# Altium integrated library National Semiconductor Amplifier.IntLib: 1665 symbols (part 4 of 44)
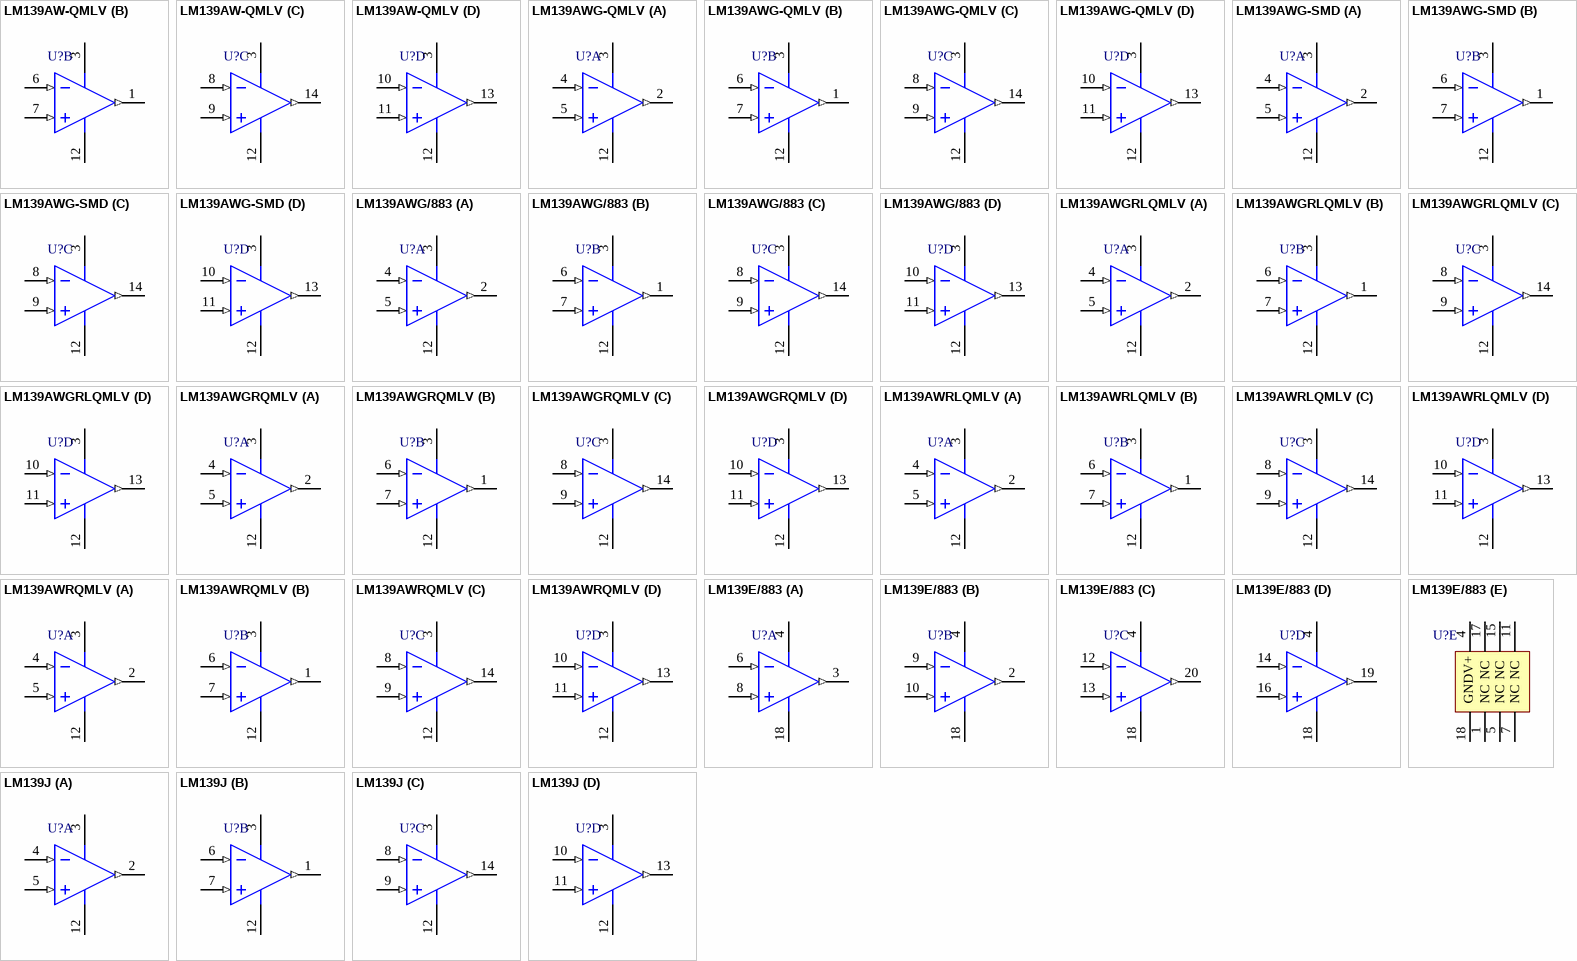
[diagram p87: symbols LM139AW-QMLV to LM139J]

## LM139AWRQMLV
designator U?
Low Power Low Offset Voltage Quad Comparator, 14-pin CerPACK; PartNumber: LM139AWRQMLV; Manufacturer: National Semiconductor; PackageTopMarking: NSZSSXXYYA*LM139AWR*QV Q*5962R*9673801VDA; PowerWise: N; CompType: Amplifiers; High-Reliability: Y; DatasheetVersion: Mar-2004; PackageVersion: revP, Jun-2004; PackageReference: W14B; PackageDescription: Cerpack, .390 x .250 x .070in Body, 14 Lead, .050in Pitch; RoHS: N; PinCount: 14; Code_JEDEC: MO-092-AB; ComponentLink1Description: Manufacturer URL; ComponentLink1URL: http://www.national.com/; ComponentLink2Description: LM139A Datasheet; ComponentLink2URL: http://www.national.com/ds/LM/LM139AQML.pdf; ComponentLink3Description: LM139A Web Page; ComponentLink3URL: http://www.national.com/pf/LM/LM139A.html; ComponentLink4Description: W14B Package Page; ComponentLink4URL: http://www.national.com/packaging/folders/w14b.html
footprint W14B (DFP; 14 Leads; Body 9.8 x 7.1 mm (LxW max); Pitch 1.27 mm)
pins on every part: 3 V+ (power), 12 GND (power)
part A pins: 2 OUT1 (out), 4 IN1- (in), 5 IN1+ (in)
part B pins: 1 OUT2 (out), 6 IN2- (in), 7 IN2+ (in)
part C pins: 8 IN3- (in), 9 IN3+ (in), 14 OUT3 (out)
part D pins: 10 IN4- (in), 11 IN4+ (in), 13 OUT4 (out)

## LM139E/883
designator U?
Low Power Low Offset Voltage Quad Comparator, 20-pin LCC; PartNumber: LM139E/883; Manufacturer: National Semiconductor; PackageTopMarking: NSZSSXXYYA*LM139E*/883 Q; PowerWise: N; CompType: Amplifiers; High-Reliability: Y; DatasheetVersion: Apr-2008; PackageVersion: revF, May-2004; PackageReference: E20A; PackageDescription: Leadless Chip Carrier, Type C, 20 Terminal; RoHS: N; PinCount: 20; Code_JEDEC: MS-004-CB; ComponentLink1Description: Manufacturer URL; ComponentLink1URL: http://www.national.com/; ComponentLink2Description: LM139 Datasheet; ComponentLink2URL: http://www.national.com/ds/LM/LM139AQML.pdf; ComponentLink3Description: LM139 Web Page; ComponentLink3URL: http://www.national.com/pf/LM/LM139.html; ComponentLink4Description: E20A Package Page; ComponentLink4URL: http://www.national.com/packaging/folders/e20a.html
footprint E20A_N (Leadless Chip Carrier, 20-Leads, Body 8.9x8.9mm, Pitch 1.27mm, IPC Medium Density)
footprint E20A_L (Leadless Chip Carrier, 20-Leads, Body 8.9x8.9mm, Pitch 1.27mm, IPC High Density)
footprint E20A_M (Leadless Chip Carrier, 20-Leads, Body 8.9x8.9mm, Pitch 1.27mm, IPC Low Density)
pins on every part: 4 V+ (power), 18 GND (power)
part A pins: 3 OUT1 (out), 6 IN1- (in), 8 IN1+ (in)
part B pins: 2 OUT2 (out), 9 IN2- (in), 10 IN2+ (in)
part C pins: 12 IN3- (in), 13 IN3+ (in), 20 OUT3 (out)
part D pins: 14 IN4- (in), 16 IN4+ (in), 19 OUT4 (out)
part E pins: 1 NC, 5 NC, 7 NC, 11 NC, 15 NC, 17 NC

## LM139J
designator U?
Low Power Low Offset Voltage Quad Comparator, 14-pin CerDIP; PartNumber: LM139J; Manufacturer: National Semiconductor; PackageTopMarking: NSUZXYYTT*LM139J; PowerWise: N; CompType: Amplifiers; High-Reliability: Y; DatasheetVersion: Mar-2004; PackageVersion: revJ, Jul-2002; PackageReference: J14A; PackageDescription: Cerdip, .400 x .310in Body, 14 Lead, .300in Centers, .100in Pitch; RoHS: N; PinCount: 14; ComponentLink1Description: Manufacturer URL; ComponentLink1URL: http://www.national.com/; ComponentLink2Description: LM139 Datasheet; ComponentLink2URL: http://www.national.com/ds/LM/LM139.pdf; ComponentLink3Description: LM139 Web Page; ComponentLink3URL: http://www.national.com/pf/LM/LM139.html; ComponentLink4Description: J14A Package Page; ComponentLink4URL: http://www.national.com/packaging/folders/j14a.html
footprint J14A (DIP, 14-Leads, Row Spacing 7.62mm, Pitch 2.54mm, Body 19.56x6.73mm)
pins on every part: 3 V+ (power), 12 GND (power)
part A pins: 2 OUT1 (out), 4 IN1- (in), 5 IN1+ (in)
part B pins: 1 OUT2 (out), 6 IN2- (in), 7 IN2+ (in)
part C pins: 8 IN3- (in), 9 IN3+ (in), 14 OUT3 (out)
part D pins: 10 IN4- (in), 11 IN4+ (in), 13 OUT4 (out)

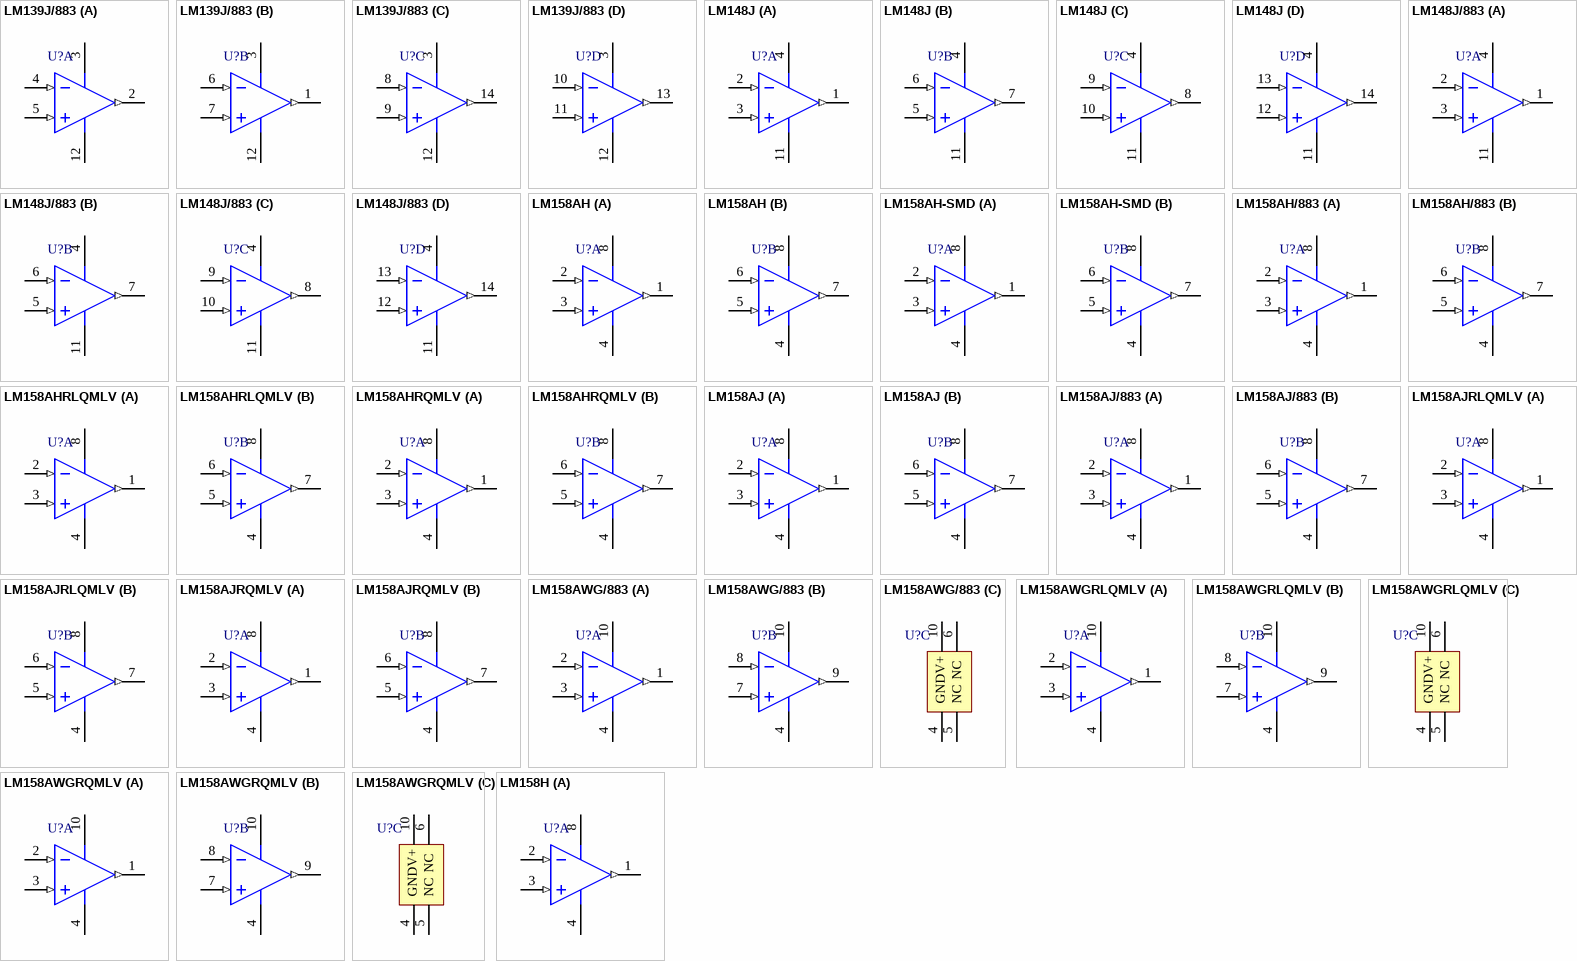
[diagram p8: symbols LM139J/883 to LM158H]

## LM139J/883
designator U?
Low Power Low Offset Voltage Quad Comparator, 14-pin CerDIP; PartNumber: LM139J/883; Manufacturer: National Semiconductor; PackageTopMarking: NSZSSXXYYA*LM139J/883 Q; PowerWise: N; CompType: Amplifiers; High-Reliability: Y; DatasheetVersion: Mar-2004; PackageVersion: revJ, Jul-2002; PackageReference: J14A; PackageDescription: Cerdip, .400 x .310in Body, 14 Lead, .300in Centers, .100in Pitch; RoHS: N; PinCount: 14; ComponentLink1Description: Manufacturer URL; ComponentLink1URL: http://www.national.com/; ComponentLink2Description: LM139 Datasheet; ComponentLink2URL: http://www.national.com/ds/LM/LM139AQML.pdf; ComponentLink3Description: LM139 Web Page; ComponentLink3URL: http://www.national.com/pf/LM/LM139.html; ComponentLink4Description: J14A Package Page; ComponentLink4URL: http://www.national.com/packaging/folders/j14a.html
footprint J14A (DIP, 14-Leads, Row Spacing 7.62mm, Pitch 2.54mm, Body 19.56x6.73mm)
pins on every part: 3 V+ (power), 12 GND (power)
part A pins: 2 OUT1 (out), 4 IN1- (in), 5 IN1+ (in)
part B pins: 1 OUT2 (out), 6 IN2- (in), 7 IN2+ (in)
part C pins: 8 IN3- (in), 9 IN3+ (in), 14 OUT3 (out)
part D pins: 10 IN4- (in), 11 IN4+ (in), 13 OUT4 (out)

## LM148J
designator U?
Series Quad 741 Op Amp, 14-pin CerDIP; PartNumber: LM148J; Manufacturer: National Semiconductor; PackageTopMarking: NSUZXYYTT*LM148J; PowerWise: N; CompType: Amplifiers; High-Reliability: Y; DatasheetVersion: Nov-2003; PackageVersion: revJ, Jul-2002; PackageReference: J14A; PackageDescription: Cerdip, .400 x .310in Body, 14 Lead, .300in Centers, .100in Pitch; RoHS: N; PinCount: 14; ComponentLink1Description: Manufacturer URL; ComponentLink1URL: http://www.national.com/; ComponentLink2Description: LM148 Datasheet; ComponentLink2URL: http://www.national.com/ds/LM/LM148.pdf; ComponentLink3Description: LM148 Web Page; ComponentLink3URL: http://www.national.com/pf/LM/LM148.html; ComponentLink4Description: J14A Package Page; ComponentLink4URL: http://www.national.com/packaging/folders/j14a.html
footprint J14A (DIP, 14-Leads, Row Spacing 7.62mm, Pitch 2.54mm, Body 19.56x6.73mm)
pins on every part: 4 V+ (power), 11 V- (power)
part A pins: 1 OUT1 (out), 2 IN1- (in), 3 IN1+ (in)
part B pins: 5 IN2+ (in), 6 IN2- (in), 7 OUT2 (out)
part C pins: 8 OUT3 (out), 9 IN3- (in), 10 IN3+ (in)
part D pins: 12 IN4+ (in), 13 IN4- (in), 14 OUT4 (out)

## LM148J/883
designator U?
Series Quad 741 Op Amp, 14-pin CerDIP; PartNumber: LM148J/883; Manufacturer: National Semiconductor; PackageTopMarking: NSZSSXXYYA*LM148J/883 Q; PowerWise: N; CompType: Amplifiers; High-Reliability: Y; DatasheetVersion: Nov-2003; PackageVersion: revJ, Jul-2002; PackageReference: J14A; PackageDescription: Cerdip, .400 x .310in Body, 14 Lead, .300in Centers, .100in Pitch; RoHS: N; PinCount: 14; ComponentLink1Description: Manufacturer URL; ComponentLink1URL: http://www.national.com/; ComponentLink2Description: LM148 Datasheet; ComponentLink2URL: http://www.national.com/ds/LM/LM148QML.pdf; ComponentLink3Description: LM148 Web Page; ComponentLink3URL: http://www.national.com/pf/LM/LM148.html; ComponentLink4Description: J14A Package Page; ComponentLink4URL: http://www.national.com/packaging/folders/j14a.html
footprint J14A (DIP, 14-Leads, Row Spacing 7.62mm, Pitch 2.54mm, Body 19.56x6.73mm)
pins on every part: 4 V+ (power), 11 V- (power)
part A pins: 1 OUT1 (out), 2 IN1- (in), 3 IN1+ (in)
part B pins: 5 IN2+ (in), 6 IN2- (in), 7 OUT2 (out)
part C pins: 8 OUT3 (out), 9 IN3- (in), 10 IN3+ (in)
part D pins: 12 IN4+ (in), 13 IN4- (in), 14 OUT4 (out)

## LM158AH
designator U?
Low Power Dual Operational Amplifier, 8-pin TO-99; PartNumber: LM158AH; Manufacturer: National Semiconductor; PackageTopMarking: NSZXYTTE# LM158AH; PowerWise: N; CompType: Amplifiers; High-Reliability: Y; DatasheetVersion: Oct-2005; PackageVersion: revF, Jun-1995; PackageReference: H08C; PackageDescription: Metal Can, TO-99, 8 Lead, .200 Dia., P.C.; RoHS: N; PinCount: 8; Code_JEDEC: TO-99; ComponentLink1Description: Manufacturer URL; ComponentLink1URL: http://www.national.com/; ComponentLink2Description: LM158 Datasheet; ComponentLink2URL: http://www.national.com/ds/LM/LM158.pdf; ComponentLink3Description: LM158 Web Page; ComponentLink3URL: http://www.national.com/pf/LM/LM158.html; ComponentLink4Description: H08C Package Page; ComponentLink4URL: http://www.national.com/packaging/folders/h08c.html
footprint H08C (Can; 8 Leads; Pin Circle Dia. 5.08 mm; Lead Dia. 0.48 mm (max))
pins on every part: 4 GND (power), 8 V+ (power)
part A pins: 1 OUTA (out), 2 INA- (in), 3 INA+ (in)
part B pins: 5 INB+ (in), 6 INB- (in), 7 OUTB (out)

## LM158AH-SMD
designator U?
Low Power Dual Operational Amplifier, 8-pin TO-99; PartNumber: LM158AH-SMD; Manufacturer: National Semiconductor; PackageTopMarking: NSZSSXXYYA Q*5962-8771002GA; PowerWise: N; CompType: Amplifiers; High-Reliability: Y; DatasheetVersion: Oct-2005; PackageVersion: revF, Jun-1995; PackageReference: H08C; PackageDescription: Metal Can, TO-99, 8 Lead, .200 Dia., P.C.; RoHS: N; PinCount: 8; Code_JEDEC: TO-99; ComponentLink1Description: Manufacturer URL; ComponentLink1URL: http://www.national.com/; ComponentLink2Description: LM158 Datasheet; ComponentLink2URL: http://www.national.com/ds/LM/LM158QML.pdf; ComponentLink3Description: LM158 Web Page; ComponentLink3URL: http://www.national.com/pf/LM/LM158.html; ComponentLink4Description: H08C Package Page; ComponentLink4URL: http://www.national.com/packaging/folders/h08c.html
footprint H08C (Can; 8 Leads; Pin Circle Dia. 5.08 mm; Lead Dia. 0.48 mm (max))
pins on every part: 4 GND (power), 8 V+ (power)
part A pins: 1 OUTA (out), 2 INA- (in), 3 INA+ (in)
part B pins: 5 INB+ (in), 6 INB- (in), 7 OUTB (out)

## LM158AH/883
designator U?
Low Power Dual Operational Amplifier, 8-pin TO-99; PartNumber: LM158; Manufacturer: National Semiconductor; PackageTopMarking: NSZSSXXYYA LM158AH/883 Q; PowerWise: N; CompType: Amplifiers; High-Reliability: Y; DatasheetVersion: Oct-2005; PackageVersion: revF, Jun-1995; PackageReference: H08C; PackageDescription: Metal Can, TO-99, 8 Lead, .200 Dia., P.C.; RoHS: N; PinCount: 8; Code_JEDEC: TO-99; ComponentLink1Description: Manufacturer URL; ComponentLink1URL: http://www.national.com/; ComponentLink2Description: LM158 Datasheet; ComponentLink2URL: http://www.national.com/ds/LM/LM158QML.pdf; ComponentLink3Description: LM158 Web Page; ComponentLink3URL: http://www.national.com/pf/LM/LM158.html; ComponentLink4Description: H08C Package Page; ComponentLink4URL: http://www.national.com/packaging/folders/h08c.html
footprint H08C (Can; 8 Leads; Pin Circle Dia. 5.08 mm; Lead Dia. 0.48 mm (max))
pins on every part: 4 GND (power), 8 V+ (power)
part A pins: 1 OUTA (out), 2 INA- (in), 3 INA+ (in)
part B pins: 5 INB+ (in), 6 INB- (in), 7 OUTB (out)

## LM158AHRLQMLV
designator U?
Low Power Dual Operational Amplifier, 8-pin TO-99; PartNumber: LM158AHRLQMLV; Manufacturer: National Semiconductor; PackageTopMarking: NSZSSXXYYA LM158AHRLQV Q*5962R8771003VGA; PowerWise: N; CompType: Amplifiers; High-Reliability: Y; DatasheetVersion: Aug-2008; PackageVersion: revF, Jun-1995; PackageReference: H08C; PackageDescription: Metal Can, TO-99, 8 Lead, .200 Dia., P.C.; RoHS: N; PinCount: 8; Code_JEDEC: TO-99; ComponentLink1Description: Manufacturer URL; ComponentLink1URL: http://www.national.com/; ComponentLink2Description: LM158 Datasheet; ComponentLink2URL: http://www.national.com/ds/LM/LM158QML.pdf; ComponentLink3Description: LM158 Web Page; ComponentLink3URL: http://www.national.com/pf/LM/LM158.html; ComponentLink4Description: H08C Package Page; ComponentLink4URL: http://www.national.com/packaging/folders/h08c.html
footprint H08C (Can; 8 Leads; Pin Circle Dia. 5.08 mm; Lead Dia. 0.48 mm (max))
pins on every part: 4 GND (power), 8 V+ (power)
part A pins: 1 OUTA (out), 2 INA- (in), 3 INA+ (in)
part B pins: 5 INB+ (in), 6 INB- (in), 7 OUTB (out)

## LM158AHRQMLV
designator U?
Low Power Dual Operational Amplifier, 8-pin TO-99; PartNumber: LM158AHRQMLV; Manufacturer: National Semiconductor; PackageTopMarking: NS ZSSXXYYA LM158AHRQV Q*5962R8771002VGA; PowerWise: N; CompType: Amplifiers; High-Reliability: Y; DatasheetVersion: Oct-2005; PackageVersion: revF, Jun-1995; PackageReference: H08C; PackageDescription: Metal Can, TO-99, 8 Lead, .200 Dia., P.C.; RoHS: N; PinCount: 8; Code_JEDEC: TO-99; ComponentLink1Description: Manufacturer URL; ComponentLink1URL: http://www.national.com/; ComponentLink2Description: LM158 Datasheet; ComponentLink2URL: http://www.national.com/ds/LM/LM158QML.pdf; ComponentLink3Description: LM158 Web Page; ComponentLink3URL: http://www.national.com/pf/LM/LM158.html; ComponentLink4Description: H08C Package Page; ComponentLink4URL: http://www.national.com/packaging/folders/h08c.html
footprint H08C (Can; 8 Leads; Pin Circle Dia. 5.08 mm; Lead Dia. 0.48 mm (max))
pins on every part: 4 GND (power), 8 V+ (power)
part A pins: 1 OUTA (out), 2 INA- (in), 3 INA+ (in)
part B pins: 5 INB+ (in), 6 INB- (in), 7 OUTB (out)

## LM158AJ
designator U?
Low Power Dual Operational Amplifier, 8-pin CerDIP; PartNumber: LM158AJ; Manufacturer: National Semiconductor; PackageTopMarking: NSUZXYTT*LM158AJ; PowerWise: N; CompType: Amplifiers; High-Reliability: Y; DatasheetVersion: Oct-2005; PackageVersion: revM, Jul-2002; PackageReference: J08A; PackageDescription: Cerdip, .400 x .310in Body, 8 Lead, .300in Centers, .100in Pitch; RoHS: N; PinCount: 8; ComponentLink1Description: Manufacturer URL; ComponentLink1URL: http://www.national.com/; ComponentLink2Description: LM158 Datasheet; ComponentLink2URL: http://www.national.com/ds/LM/LM158.pdf; ComponentLink3Description: LM158 Web Page; ComponentLink3URL: http://www.national.com/pf/LM/LM158.html; ComponentLink4Description: J08A Package Page; ComponentLink4URL: http://www.national.com/packaging/folders/j08a.html
footprint J08A (DIP, 8-Leads, Row Spacing 7.62mm, Pitch 2.54mm, Body 9.78x6.73mm)
pins on every part: 4 GND (power), 8 V+ (power)
part A pins: 1 OUTA (out), 2 INA- (in), 3 INA+ (in)
part B pins: 5 INB+ (in), 6 INB- (in), 7 OUTB (out)

## LM158AJ/883
designator U?
Low Power Dual Operational Amplifier, 8-pin CerDIP; PartNumber: LM158AJ/883; Manufacturer: National Semiconductor; PackageTopMarking: NSZSSXXYYA*LM158AJ/883*Q 5962-*8771002PA; PowerWise: N; CompType: Amplifiers; High-Reliability: Y; DatasheetVersion: Oct-2005; PackageVersion: revM, Jul-2002; PackageReference: J08A; PackageDescription: Cerdip, .400 x .310in Body, 8 Lead, .300in Centers, .100in Pitch; RoHS: N; PinCount: 8; ComponentLink1Description: Manufacturer URL; ComponentLink1URL: http://www.national.com/; ComponentLink2Description: LM158 Datasheet; ComponentLink2URL: http://www.national.com/ds/LM/LM158QML.pdf; ComponentLink3Description: LM158 Web Page; ComponentLink3URL: http://www.national.com/pf/LM/LM158.html; ComponentLink4Description: J08A Package Page; ComponentLink4URL: http://www.national.com/packaging/folders/j08a.html
footprint J08A (DIP, 8-Leads, Row Spacing 7.62mm, Pitch 2.54mm, Body 9.78x6.73mm)
pins on every part: 4 GND (power), 8 V+ (power)
part A pins: 1 OUTA (out), 2 INA- (in), 3 INA+ (in)
part B pins: 5 INB+ (in), 6 INB- (in), 7 OUTB (out)

## LM158AJRLQMLV
designator U?
Low Power Dual Operational Amplifier, 8-pin CerDIP; PartNumber: LM158AJRLQMLV; Manufacturer: National Semiconductor; PackageTopMarking: NSZSSXXYYA*LM158AJRL*QV Q 5962R*8771003VPA; PowerWise: N; CompType: Amplifiers; High-Reliability: Y; DatasheetVersion: Aug-2008; PackageVersion: revM, Jul-2002; PackageReference: J08A; PackageDescription: Cerdip, .400 x .310in Body, 8 Lead, .300in Centers, .100in Pitch; RoHS: N; PinCount: 8; ComponentLink1Description: Manufacturer URL; ComponentLink1URL: http://www.national.com/; ComponentLink2Description: LM158 Datasheet; ComponentLink2URL: http://www.national.com/ds/LM/LM158QML.pdf; ComponentLink3Description: LM158 Web Page; ComponentLink3URL: http://www.national.com/pf/LM/LM158.html; ComponentLink4Description: J08A Package Page; ComponentLink4URL: http://www.national.com/packaging/folders/j08a.html
footprint J08A (DIP, 8-Leads, Row Spacing 7.62mm, Pitch 2.54mm, Body 9.78x6.73mm)
pins on every part: 4 GND (power), 8 V+ (power)
part A pins: 1 OUTA (out), 2 INA- (in), 3 INA+ (in)
part B pins: 5 INB+ (in), 6 INB- (in), 7 OUTB (out)

## LM158AJRQMLV
designator U?
Low Power Dual Operational Amplifier, 8-pin CerDIP; PartNumber: LM158AJRQMLV; Manufacturer: National Semiconductor; PackageTopMarking: NSZSSXXYYA*LM158AJRQV Q*5962R8771002*VPA; PowerWise: N; CompType: Amplifiers; High-Reliability: Y; DatasheetVersion: Oct-2005; PackageVersion: revM, Jul-2002; PackageReference: J08A; PackageDescription: Cerdip, .400 x .310in Body, 8 Lead, .300in Centers, .100in Pitch; RoHS: N; PinCount: 8; ComponentLink1Description: Manufacturer URL; ComponentLink1URL: http://www.national.com/; ComponentLink2Description: LM158 Datasheet; ComponentLink2URL: http://www.national.com/ds/LM/LM158QML.pdf; ComponentLink3Description: LM158 Web Page; ComponentLink3URL: http://www.national.com/pf/LM/LM158.html; ComponentLink4Description: J08A Package Page; ComponentLink4URL: http://www.national.com/packaging/folders/j08a.html
footprint J08A (DIP, 8-Leads, Row Spacing 7.62mm, Pitch 2.54mm, Body 9.78x6.73mm)
pins on every part: 4 GND (power), 8 V+ (power)
part A pins: 1 OUTA (out), 2 INA- (in), 3 INA+ (in)
part B pins: 5 INB+ (in), 6 INB- (in), 7 OUTB (out)

## LM158AWG/883
designator U?
Low Power Dual Operational Amplifier, 10-pin CerPACK; PartNumber: LM158AWG/883; Manufacturer: National Semiconductor; PackageTopMarking: NS87710*02QXA*ZSSXXYYA*LM158A*WG/883 Q; PowerWise: N; CompType: Amplifiers; High-Reliability: Y; DatasheetVersion: Aug-2008; PackageVersion: revF, Oct-2008; PackageReference: WG10A; PackageDescription: Cerpack, .270 x .241 x .070in, 10 Lead, .050in Pitch, Gull Wing; RoHS: N; PinCount: 10; ComponentLink1Description: Manufacturer URL; ComponentLink1URL: http://www.national.com/; ComponentLink2Description: LM158 Datasheet; ComponentLink2URL: http://www.national.com/ds/LM/LM158QML.pdf; ComponentLink3Description: LM158 Web Page; ComponentLink3URL: http://www.national.com/pf/LM/LM158.html; ComponentLink4Description: WG10A Package Page; ComponentLink4URL: http://www.national.com/packaging/folders/wg10a.html
footprint WG10A_N (CERPACK, 10-Leads, Body 6.9x6.3mm, Pitch 1.27mm, IPC Medium Density)
footprint WG10A_L (CERPACK, 10-Leads, Body 6.9x6.3mm, Pitch 1.27mm, IPC High Density)
footprint WG10A_M (CERPACK, 10-Leads, Body 6.9x6.3mm, Pitch 1.27mm, IPC Low Density)
pins on every part: 4 GND (power), 10 V+ (power)
part A pins: 1 OUTA (out), 2 INA- (in), 3 INA+ (in)
part B pins: 7 INB+ (in), 8 INB- (in), 9 OUTB (out)
part C pins: 5 NC, 6 NC

## LM158AWGRLQMLV
designator U?
Low Power Dual Operational Amplifier, 10-pin CerPACK; PartNumber: LM158AWGRLQMLV; Manufacturer: National Semiconductor; PackageTopMarking: NSZSSXXYYA*LM158AWG*RLQV Q*5962R87710*03VXA; PowerWise: N; CompType: Amplifiers; High-Reliability: Y; DatasheetVersion: Aug-2008; PackageVersion: revF, Oct-2008; PackageReference: WG10A; PackageDescription: Cerpack, .270 x .241 x .070in, 10 Lead, .050in Pitch, Gull Wing; RoHS: N; PinCount: 10; ComponentLink1Description: Manufacturer URL; ComponentLink1URL: http://www.national.com/; ComponentLink2Description: LM158 Datasheet; ComponentLink2URL: http://www.national.com/ds/LM/LM158QML.pdf; ComponentLink3Description: LM158 Web Page; ComponentLink3URL: http://www.national.com/pf/LM/LM158.html; ComponentLink4Description: WG10A Package Page; ComponentLink4URL: http://www.national.com/packaging/folders/wg10a.html
footprint WG10A_N (CERPACK, 10-Leads, Body 6.9x6.3mm, Pitch 1.27mm, IPC Medium Density)
footprint WG10A_L (CERPACK, 10-Leads, Body 6.9x6.3mm, Pitch 1.27mm, IPC High Density)
footprint WG10A_M (CERPACK, 10-Leads, Body 6.9x6.3mm, Pitch 1.27mm, IPC Low Density)
pins on every part: 4 GND (power), 10 V+ (power)
part A pins: 1 OUTA (out), 2 INA- (in), 3 INA+ (in)
part B pins: 7 INB+ (in), 8 INB- (in), 9 OUTB (out)
part C pins: 5 NC, 6 NC

## LM158AWGRQMLV
designator U?
Low Power Dual Operational Amplifier, 10-pin CerPACK; PartNumber: LM158AWGRQMLV; Manufacturer: National Semiconductor; PackageTopMarking: NSZSSXXYYA*LM158AWG*RQV Q*5962R87710*02VXA; PowerWise: N; CompType: Amplifiers; High-Reliability: Y; DatasheetVersion: Aug-2008; PackageVersion: revF, Oct-2008; PackageReference: WG10A; PackageDescription: Cerpack, .270 x .241 x .070in, 10 Lead, .050in Pitch, Gull Wing; RoHS: N; PinCount: 10; ComponentLink1Description: Manufacturer URL; ComponentLink1URL: http://www.national.com/; ComponentLink2Description: LM158 Datasheet; ComponentLink2URL: http://www.national.com/ds/LM/LM158QML.pdf; ComponentLink3Description: LM158 Web Page; ComponentLink3URL: http://www.national.com/pf/LM/LM158.html; ComponentLink4Description: WG10A Package Page; ComponentLink4URL: http://www.national.com/packaging/folders/wg10a.html
footprint WG10A_N (CERPACK, 10-Leads, Body 6.9x6.3mm, Pitch 1.27mm, IPC Medium Density)
footprint WG10A_L (CERPACK, 10-Leads, Body 6.9x6.3mm, Pitch 1.27mm, IPC High Density)
footprint WG10A_M (CERPACK, 10-Leads, Body 6.9x6.3mm, Pitch 1.27mm, IPC Low Density)
pins on every part: 4 GND (power), 10 V+ (power)
part A pins: 1 OUTA (out), 2 INA- (in), 3 INA+ (in)
part B pins: 7 INB+ (in), 8 INB- (in), 9 OUTB (out)
part C pins: 5 NC, 6 NC

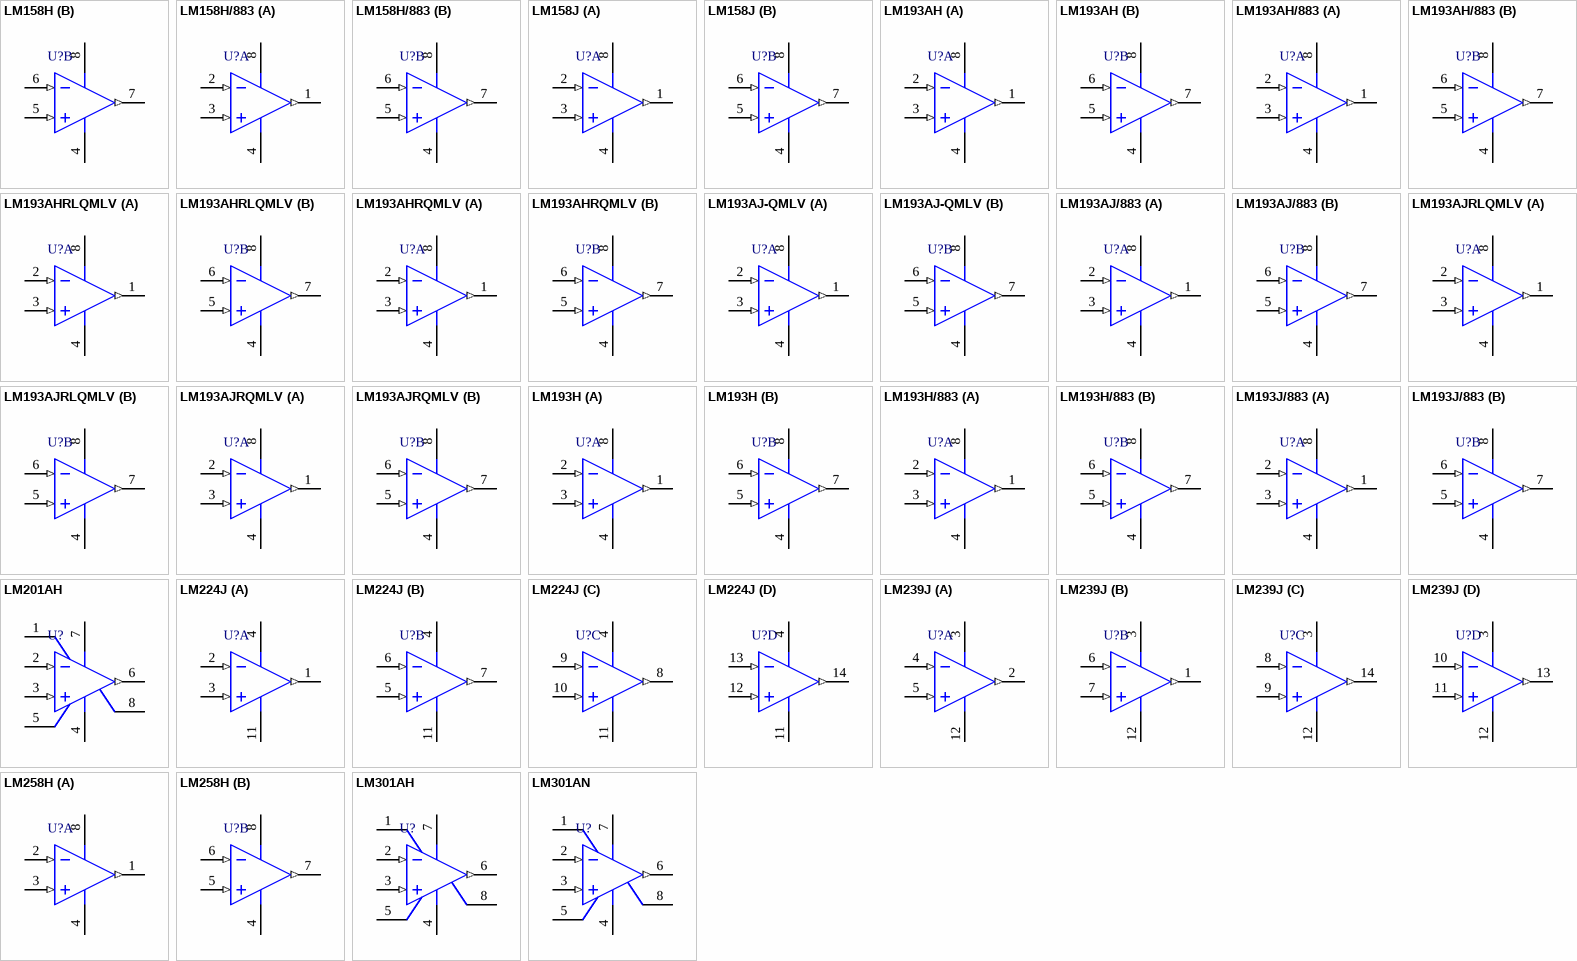
[diagram p9: symbols LM158H to LM301AN]

## LM158H
designator U?
Low Power Dual Operational Amplifier, 8-pin TO-99; PartNumber: LM158H; Manufacturer: National Semiconductor; PackageTopMarking: NSZXYTTE# LM158H; PowerWise: N; CompType: Amplifiers; High-Reliability: Y; DatasheetVersion: Oct-2005; PackageVersion: revF, Jun-1995; PackageReference: H08C; PackageDescription: Metal Can, TO-99, 8 Lead, .200 Dia., P.C.; RoHS: N; PinCount: 8; Code_JEDEC: TO-99; ComponentLink1Description: Manufacturer URL; ComponentLink1URL: http://www.national.com/; ComponentLink2Description: LM158 Datasheet; ComponentLink2URL: http://www.national.com/ds/LM/LM158.pdf; ComponentLink3Description: LM158 Web Page; ComponentLink3URL: http://www.national.com/pf/LM/LM158.html; ComponentLink4Description: H08C Package Page; ComponentLink4URL: http://www.national.com/packaging/folders/h08c.html
footprint H08C (Can; 8 Leads; Pin Circle Dia. 5.08 mm; Lead Dia. 0.48 mm (max))
pins on every part: 4 GND (power), 8 V+ (power)
part A pins: 1 OUTA (out), 2 INA- (in), 3 INA+ (in)
part B pins: 5 INB+ (in), 6 INB- (in), 7 OUTB (out)

## LM158H/883
designator U?
Low Power Dual Operational Amplifier, 8-pin TO-99; PartNumber: LM158; Manufacturer: National Semiconductor; PackageTopMarking: NSZSSXXYYA LM158H/883 Q; PowerWise: N; CompType: Amplifiers; High-Reliability: Y; DatasheetVersion: Oct-2005; PackageVersion: revF, Jun-1995; PackageReference: H08C; PackageDescription: Metal Can, TO-99, 8 Lead, .200 Dia., P.C.; RoHS: N; PinCount: 8; Code_JEDEC: TO-99; ComponentLink1Description: Manufacturer URL; ComponentLink1URL: http://www.national.com/; ComponentLink2Description: LM158 Datasheet; ComponentLink2URL: http://www.national.com/ds/LM/LM158QML.pdf; ComponentLink3Description: LM158 Web Page; ComponentLink3URL: http://www.national.com/pf/LM/LM158.html; ComponentLink4Description: H08C Package Page; ComponentLink4URL: http://www.national.com/packaging/folders/h08c.html
footprint H08C (Can; 8 Leads; Pin Circle Dia. 5.08 mm; Lead Dia. 0.48 mm (max))
pins on every part: 4 GND (power), 8 V+ (power)
part A pins: 1 OUTA (out), 2 INA- (in), 3 INA+ (in)
part B pins: 5 INB+ (in), 6 INB- (in), 7 OUTB (out)

## LM158J
designator U?
Low Power Dual Operational Amplifier, 8-pin CerDIP; PartNumber: LM158J; Manufacturer: National Semiconductor; PackageTopMarking: NSUZXYTT*LM158J; PowerWise: N; CompType: Amplifiers; High-Reliability: Y; DatasheetVersion: Oct-2005; PackageVersion: revM, Jul-2002; PackageReference: J08A; PackageDescription: Cerdip, .400 x .310in Body, 8 Lead, .300in Centers, .100in Pitch; RoHS: N; PinCount: 8; ComponentLink1Description: Manufacturer URL; ComponentLink1URL: http://www.national.com/; ComponentLink2Description: LM158 Datasheet; ComponentLink2URL: http://www.national.com/ds/LM/LM158.pdf; ComponentLink3Description: LM158 Web Page; ComponentLink3URL: http://www.national.com/pf/LM/LM158.html; ComponentLink4Description: J08A Package Page; ComponentLink4URL: http://www.national.com/packaging/folders/j08a.html
footprint J08A (DIP, 8-Leads, Row Spacing 7.62mm, Pitch 2.54mm, Body 9.78x6.73mm)
pins on every part: 4 GND (power), 8 V+ (power)
part A pins: 1 OUTA (out), 2 INA- (in), 3 INA+ (in)
part B pins: 5 INB+ (in), 6 INB- (in), 7 OUTB (out)

## LM193AH
designator U?
Low Power Low Offset Voltage Dual Comparator, 8-pin TO-99; PartNumber: LM193AH; Manufacturer: National Semiconductor; PackageTopMarking: NSZXYTTE# LM193AH; PowerWise: N; CompType: Amplifiers; High-Reliability: Y; DatasheetVersion: Aug-2002; PackageVersion: revF, Jun-1995; PackageReference: H08C; PackageDescription: Metal Can, TO-99, 8 Lead, .200 Dia., P.C.; RoHS: N; PinCount: 8; Code_JEDEC: TO-99; ComponentLink1Description: Manufacturer URL; ComponentLink1URL: http://www.national.com/; ComponentLink2Description: LM193A Datasheet; ComponentLink2URL: http://www.national.com/ds/LM/LM193.pdf; ComponentLink3Description: LM193A Web Page; ComponentLink3URL: http://www.national.com/pf/LM/LM193A.html; ComponentLink4Description: H08C Package Page; ComponentLink4URL: http://www.national.com/packaging/folders/h08c.html
footprint H08C (Can; 8 Leads; Pin Circle Dia. 5.08 mm; Lead Dia. 0.48 mm (max))
pins on every part: 4 GND (power), 8 V+ (power)
part A pins: 1 OUTA (out), 2 INA- (in), 3 INA+ (in)
part B pins: 5 INB+ (in), 6 INB- (in), 7 OUTB (out)

## LM193AH/883
designator U?
Low Power Low Offset Voltage Dual Comparator, 8-pin TO-99; PartNumber: LM193AH/883; Manufacturer: National Semiconductor; PackageTopMarking: NSZSSXXYYA LM193AH/883 Q*5962-9452602MGA; PowerWise: N; CompType: Amplifiers; High-Reliability: Y; DatasheetVersion: Aug-2002; PackageVersion: revF, Jun-1995; PackageReference: H08C; PackageDescription: Metal Can, TO-99, 8 Lead, .200 Dia., P.C.; RoHS: N; PinCount: 8; Code_JEDEC: TO-99; ComponentLink1Description: Manufacturer URL; ComponentLink1URL: http://www.national.com/; ComponentLink2Description: LM193A Datasheet; ComponentLink2URL: http://www.national.com/ds/LM/LM193QML.pdf; ComponentLink3Description: LM193A Web Page; ComponentLink3URL: http://www.national.com/pf/LM/LM193A.html; ComponentLink4Description: H08C Package Page; ComponentLink4URL: http://www.national.com/packaging/folders/h08c.html
footprint H08C (Can; 8 Leads; Pin Circle Dia. 5.08 mm; Lead Dia. 0.48 mm (max))
pins on every part: 4 GND (power), 8 V+ (power)
part A pins: 1 OUTA (out), 2 INA- (in), 3 INA+ (in)
part B pins: 5 INB+ (in), 6 INB- (in), 7 OUTB (out)

## LM193AHRLQMLV
designator U?
Low Power Low Offset Voltage Dual Comparator, 8-pin TO-99; PartNumber: LM193AHRLQMLV; Manufacturer: National Semiconductor; PackageTopMarking: NSZSSXXYYALM193AHRLQV Q*5962R9452603VGA; PowerWise: N; CompType: Amplifiers; High-Reliability: Y; DatasheetVersion: Aug-2002; PackageVersion: revF, Jun-1995; PackageReference: H08C; PackageDescription: Metal Can, TO-99, 8 Lead, .200 Dia., P.C.; RoHS: N; PinCount: 8; Code_JEDEC: TO-99; ComponentLink1Description: Manufacturer URL; ComponentLink1URL: http://www.national.com/; ComponentLink2Description: LM193A Datasheet; ComponentLink2URL: http://www.national.com/ds/LM/LM193QML.pdf; ComponentLink3Description: LM193A Web Page; ComponentLink3URL: http://www.national.com/pf/LM/LM193A.html; ComponentLink4Description: H08C Package Page; ComponentLink4URL: http://www.national.com/packaging/folders/h08c.html
footprint H08C (Can; 8 Leads; Pin Circle Dia. 5.08 mm; Lead Dia. 0.48 mm (max))
pins on every part: 4 GND (power), 8 V+ (power)
part A pins: 1 OUTA (out), 2 INA- (in), 3 INA+ (in)
part B pins: 5 INB+ (in), 6 INB- (in), 7 OUTB (out)

## LM193AHRQMLV
designator U?
Low Power Low Offset Voltage Dual Comparator, 8-pin TO-99; PartNumber: LM193AHRQMLV; Manufacturer: National Semiconductor; PackageTopMarking: NSZSSXXYYALM193AHRQV Q*5962R9452602VGA; PowerWise: N; CompType: Amplifiers; High-Reliability: Y; DatasheetVersion: Aug-2002; PackageVersion: revF, Jun-1995; PackageReference: H08C; PackageDescription: Metal Can, TO-99, 8 Lead, .200 Dia., P.C.; RoHS: N; PinCount: 8; Code_JEDEC: TO-99; ComponentLink1Description: Manufacturer URL; ComponentLink1URL: http://www.national.com/; ComponentLink2Description: LM193A Datasheet; ComponentLink2URL: http://www.national.com/ds/LM/LM193QML.pdf; ComponentLink3Description: LM193A Web Page; ComponentLink3URL: http://www.national.com/pf/LM/LM193A.html; ComponentLink4Description: H08C Package Page; ComponentLink4URL: http://www.national.com/packaging/folders/h08c.html
footprint H08C (Can; 8 Leads; Pin Circle Dia. 5.08 mm; Lead Dia. 0.48 mm (max))
pins on every part: 4 GND (power), 8 V+ (power)
part A pins: 1 OUTA (out), 2 INA- (in), 3 INA+ (in)
part B pins: 5 INB+ (in), 6 INB- (in), 7 OUTB (out)

## LM193AJ-QMLV
designator U?
Low Power Low Offset Voltage Dual Comparator, 8-pin CerDIP; PartNumber: LM193AJ-QMLV; Manufacturer: National Semiconductor; PackageTopMarking: NSZSSXXYYA*LM193AJ-QV Q*5962-*9452602VPA; PowerWise: N; CompType: Amplifiers; High-Reliability: Y; DatasheetVersion: Aug-2002; PackageVersion: revM, Jul-2002; PackageReference: J08A; PackageDescription: Cerdip, .400 x .310in Body, 8 Lead, .300in Centers, .100in Pitch; RoHS: N; PinCount: 8; ComponentLink1Description: Manufacturer URL; ComponentLink1URL: http://www.national.com/; ComponentLink2Description: LM193A Datasheet; ComponentLink2URL: http://www.national.com/ds/LM/LM193QML.pdf; ComponentLink3Description: LM193A Web Page; ComponentLink3URL: http://www.national.com/pf/LM/LM193A.html; ComponentLink4Description: J08A Package Page; ComponentLink4URL: http://www.national.com/packaging/folders/j08a.html
footprint J08A (DIP, 8-Leads, Row Spacing 7.62mm, Pitch 2.54mm, Body 9.78x6.73mm)
pins on every part: 4 GND (power), 8 V+ (power)
part A pins: 1 OUTA (out), 2 INA- (in), 3 INA+ (in)
part B pins: 5 INB+ (in), 6 INB- (in), 7 OUTB (out)

## LM193AJ/883
designator U?
Low Power Low Offset Voltage Dual Comparator, 8-pin CerDIP; PartNumber: LM193AJ/883; Manufacturer: National Semiconductor; PackageTopMarking: NSZSSXXYYA*LM193AJ/883*Q 5962-*9452602MPA; PowerWise: N; CompType: Amplifiers; High-Reliability: Y; DatasheetVersion: Aug-2002; PackageVersion: revM, Jul-2002; PackageReference: J08A; PackageDescription: Cerdip, .400 x .310in Body, 8 Lead, .300in Centers, .100in Pitch; RoHS: N; PinCount: 8; ComponentLink1Description: Manufacturer URL; ComponentLink1URL: http://www.national.com/; ComponentLink2Description: LM193A Datasheet; ComponentLink2URL: http://www.national.com/ds/LM/LM193QML.pdf; ComponentLink3Description: LM193A Web Page; ComponentLink3URL: http://www.national.com/pf/LM/LM193A.html; ComponentLink4Description: J08A Package Page; ComponentLink4URL: http://www.national.com/packaging/folders/j08a.html
footprint J08A (DIP, 8-Leads, Row Spacing 7.62mm, Pitch 2.54mm, Body 9.78x6.73mm)
pins on every part: 4 GND (power), 8 V+ (power)
part A pins: 1 OUTA (out), 2 INA- (in), 3 INA+ (in)
part B pins: 5 INB+ (in), 6 INB- (in), 7 OUTB (out)

## LM193AJRLQMLV
designator U?
Low Power Low Offset Voltage Dual Comparator, 8-pin CerDIP; PartNumber: LM193AJRLQMLV; Manufacturer: National Semiconductor; PackageTopMarking: NSZSSXXYYA*LM193AJRLV Q*5962R*9452603VPA; PowerWise: N; CompType: Amplifiers; High-Reliability: Y; DatasheetVersion: Aug-2002; PackageVersion: revM, Jul-2002; PackageReference: J08A; PackageDescription: Cerdip, .400 x .310in Body, 8 Lead, .300in Centers, .100in Pitch; RoHS: N; PinCount: 8; ComponentLink1Description: Manufacturer URL; ComponentLink1URL: http://www.national.com/; ComponentLink2Description: LM193A Datasheet; ComponentLink2URL: http://www.national.com/ds/LM/LM193QML.pdf; ComponentLink3Description: LM193A Web Page; ComponentLink3URL: http://www.national.com/pf/LM/LM193A.html; ComponentLink4Description: J08A Package Page; ComponentLink4URL: http://www.national.com/packaging/folders/j08a.html
footprint J08A (DIP, 8-Leads, Row Spacing 7.62mm, Pitch 2.54mm, Body 9.78x6.73mm)
pins on every part: 4 GND (power), 8 V+ (power)
part A pins: 1 OUTA (out), 2 INA- (in), 3 INA+ (in)
part B pins: 5 INB+ (in), 6 INB- (in), 7 OUTB (out)

## LM193AJRQMLV
designator U?
Low Power Low Offset Voltage Dual Comparator, 8-pin CerDIP; PartNumber: LM193AJRQMLV; Manufacturer: National Semiconductor; PackageTopMarking: NSZSSXXYYA*LM193AJRQV Q*5962R*9452602VPA; PowerWise: N; CompType: Amplifiers; High-Reliability: Y; DatasheetVersion: Aug-2002; PackageVersion: revM, Jul-2002; PackageReference: J08A; PackageDescription: Cerdip, .400 x .310in Body, 8 Lead, .300in Centers, .100in Pitch; RoHS: N; PinCount: 8; ComponentLink1Description: Manufacturer URL; ComponentLink1URL: http://www.national.com/; ComponentLink2Description: LM193A Datasheet; ComponentLink2URL: http://www.national.com/ds/LM/LM193QML.pdf; ComponentLink3Description: LM193A Web Page; ComponentLink3URL: http://www.national.com/pf/LM/LM193A.html; ComponentLink4Description: J08A Package Page; ComponentLink4URL: http://www.national.com/packaging/folders/j08a.html
footprint J08A (DIP, 8-Leads, Row Spacing 7.62mm, Pitch 2.54mm, Body 9.78x6.73mm)
pins on every part: 4 GND (power), 8 V+ (power)
part A pins: 1 OUTA (out), 2 INA- (in), 3 INA+ (in)
part B pins: 5 INB+ (in), 6 INB- (in), 7 OUTB (out)

## LM193H
designator U?
Low Power Low Offset Voltage Dual Comparator, 8-pin TO-99; PartNumber: LM193H; Manufacturer: National Semiconductor; PackageTopMarking: NSZXYTTE# LM193H; PowerWise: N; CompType: Amplifiers; High-Reliability: Y; DatasheetVersion: Aug-2002; PackageVersion: revF, Jun-1995; PackageReference: H08C; PackageDescription: Metal Can, TO-99, 8 Lead, .200 Dia., P.C.; RoHS: N; PinCount: 8; Code_JEDEC: TO-99; ComponentLink1Description: Manufacturer URL; ComponentLink1URL: http://www.national.com/; ComponentLink2Description: LM193 Datasheet; ComponentLink2URL: http://www.national.com/ds/LM/LM193.pdf; ComponentLink3Description: LM193 Web Page; ComponentLink3URL: http://www.national.com/pf/LM/LM193.html; ComponentLink4Description: H08C Package Page; ComponentLink4URL: http://www.national.com/packaging/folders/h08c.html
footprint H08C (Can; 8 Leads; Pin Circle Dia. 5.08 mm; Lead Dia. 0.48 mm (max))
pins on every part: 4 GND (power), 8 V+ (power)
part A pins: 1 OUTA (out), 2 INA- (in), 3 INA+ (in)
part B pins: 5 INB+ (in), 6 INB- (in), 7 OUTB (out)

## LM193H/883
designator U?
Low Power Low Offset Voltage Dual Comparator, 8-pin TO-99; PartNumber: LM193H/883; Manufacturer: National Semiconductor; PackageTopMarking: NSZSSXXYYA LM193H/883 Q; PowerWise: N; CompType: Amplifiers; High-Reliability: Y; DatasheetVersion: Aug-2002; PackageVersion: revF, Jun-1995; PackageReference: H08C; PackageDescription: Metal Can, TO-99, 8 Lead, .200 Dia., P.C.; RoHS: N; PinCount: 8; Code_JEDEC: TO-99; ComponentLink1Description: Manufacturer URL; ComponentLink1URL: http://www.national.com/; ComponentLink2Description: LM193 Datasheet; ComponentLink2URL: http://www.national.com/ds/LM/LM193QML.pdf; ComponentLink3Description: LM193 Web Page; ComponentLink3URL: http://www.national.com/pf/LM/LM193.html; ComponentLink4Description: H08C Package Page; ComponentLink4URL: http://www.national.com/packaging/folders/h08c.html
footprint H08C (Can; 8 Leads; Pin Circle Dia. 5.08 mm; Lead Dia. 0.48 mm (max))
pins on every part: 4 GND (power), 8 V+ (power)
part A pins: 1 OUTA (out), 2 INA- (in), 3 INA+ (in)
part B pins: 5 INB+ (in), 6 INB- (in), 7 OUTB (out)

## LM193J/883
designator U?
Low Power Low Offset Voltage Dual Comparator, 8-pin CerDIP; PartNumber: LM193J/883; Manufacturer: National Semiconductor; PackageTopMarking: NSZSSXXYYA*LM193J/*883 Q; PowerWise: N; CompType: Amplifiers; High-Reliability: Y; DatasheetVersion: Aug-2002; PackageVersion: revM, Jul-2002; PackageReference: J08A; PackageDescription: Cerdip, .400 x .310in Body, 8 Lead, .300in Centers, .100in Pitch; RoHS: N; PinCount: 8; ComponentLink1Description: Manufacturer URL; ComponentLink1URL: http://www.national.com/; ComponentLink2Description: LM193 Datasheet; ComponentLink2URL: http://www.national.com/ds/LM/LM193QML.pdf; ComponentLink3Description: LM193 Web Page; ComponentLink3URL: http://www.national.com/pf/LM/LM193.html; ComponentLink4Description: J08A Package Page; ComponentLink4URL: http://www.national.com/packaging/folders/j08a.html
footprint J08A (DIP, 8-Leads, Row Spacing 7.62mm, Pitch 2.54mm, Body 9.78x6.73mm)
pins on every part: 4 GND (power), 8 V+ (power)
part A pins: 1 OUTA (out), 2 INA- (in), 3 INA+ (in)
part B pins: 5 INB+ (in), 6 INB- (in), 7 OUTB (out)

## LM201AH
designator U?
Operational Amplifier, 8-pin TO-99; PartNumber: LM201AH; Manufacturer: National Semiconductor; PackageTopMarking: NSZXYTTE# LM201AH; PowerWise: N; CompType: Amplifiers; High-Reliability: Y; DatasheetVersion: Aug-2000; PackageVersion: revF, Jun-1995; PackageReference: H08C; PackageDescription: Metal Can, TO-99, 8 Lead, .200 Dia., P.C.; RoHS: N; PinCount: 8; Code_JEDEC: TO-99; ComponentLink1Description: Manufacturer URL; ComponentLink1URL: http://www.national.com/; ComponentLink2Description: LM201A Datasheet; ComponentLink2URL: http://www.national.com/ds/LM/LM201A.pdf; ComponentLink3Description: LM201A Web Page; ComponentLink3URL: http://www.national.com/pf/LM/LM201A.html; ComponentLink4Description: H08C Package Page; ComponentLink4URL: http://www.national.com/packaging/folders/h08c.html
footprint H08C (Can; 8 Leads; Pin Circle Dia. 5.08 mm; Lead Dia. 0.48 mm (max))
pins: 1 BAL/COMP, 2 IN- (in), 3 IN+ (in), 4 V- (power), 5 BAL, 6 OUT (out), 7 V+ (power), 8 COMP

## LM224J
designator U?
Low Power Quad Operational Amplifier, 14-pin CerDIP; PartNumber: LM224J; Manufacturer: National Semiconductor; PackageTopMarking: NSUZXYYTT*LM224J; PowerWise: N; CompType: Amplifiers; High-Reliability: Y; DatasheetVersion: Aug-2000; PackageVersion: revJ, Jul-2002; PackageReference: J14A; PackageDescription: Cerdip, .400 x .310in Body, 14 Lead, .300in Centers, .100in Pitch; RoHS: N; PinCount: 14; ComponentLink1Description: Manufacturer URL; ComponentLink1URL: http://www.national.com/; ComponentLink2Description: LM224 Datasheet; ComponentLink2URL: http://www.national.com/ds/LM/LM224.pdf; ComponentLink3Description: LM224 Web Page; ComponentLink3URL: http://www.national.com/pf/LM/LM224.html; ComponentLink4Description: J14A Package Page; ComponentLink4URL: http://www.national.com/packaging/folders/j14a.html
footprint J14A (DIP, 14-Leads, Row Spacing 7.62mm, Pitch 2.54mm, Body 19.56x6.73mm)
pins on every part: 4 V+ (power), 11 GND (power)
part A pins: 1 OUT1 (out), 2 IN1- (in), 3 IN1+ (in)
part B pins: 5 IN2+ (in), 6 IN2- (in), 7 OUT2 (out)
part C pins: 8 OUT3 (out), 9 IN3- (in), 10 IN3+ (in)
part D pins: 12 IN4+ (in), 13 IN4- (in), 14 OUT4 (out)

## LM239J
designator U?
Low Power Low Offset Voltage Quad Comparator, 14-pin CerDIP; PartNumber: LM239J; Manufacturer: National Semiconductor; PackageTopMarking: NSUZXYYTT*LM239J; PowerWise: N; CompType: Amplifiers; High-Reliability: Y; DatasheetVersion: Mar-2004; PackageVersion: revJ, Jul-2002; PackageReference: J14A; PackageDescription: Cerdip, .400 x .310in Body, 14 Lead, .300in Centers, .100in Pitch; RoHS: N; PinCount: 14; ComponentLink1Description: Manufacturer URL; ComponentLink1URL: http://www.national.com/; ComponentLink2Description: LM239 Datasheet; ComponentLink2URL: http://www.national.com/ds/LM/LM239.pdf; ComponentLink3Description: LM239 Web Page; ComponentLink3URL: http://www.national.com/pf/LM/LM239.html; ComponentLink4Description: J14A Package Page; ComponentLink4URL: http://www.national.com/packaging/folders/j14a.html
footprint J14A (DIP, 14-Leads, Row Spacing 7.62mm, Pitch 2.54mm, Body 19.56x6.73mm)
pins on every part: 3 V+ (power), 12 GND (power)
part A pins: 2 OUT1 (out), 4 IN1- (in), 5 IN1+ (in)
part B pins: 1 OUT2 (out), 6 IN2- (in), 7 IN2+ (in)
part C pins: 8 IN3- (in), 9 IN3+ (in), 14 OUT3 (out)
part D pins: 10 IN4- (in), 11 IN4+ (in), 13 OUT4 (out)

## LM258H
designator U?
Low Power Dual Operational Amplifier, 8-pin TO-99; PartNumber: LM258H; Manufacturer: National Semiconductor; PackageTopMarking: NSZXYTTE# LM258H; PowerWise: N; CompType: Amplifiers; High-Reliability: Y; DatasheetVersion: Oct-2005; PackageVersion: revF, Jun-1995; PackageReference: H08C; PackageDescription: Metal Can, TO-99, 8 Lead, .200 Dia., P.C.; RoHS: N; PinCount: 8; Code_JEDEC: TO-99; ComponentLink1Description: Manufacturer URL; ComponentLink1URL: http://www.national.com/; ComponentLink2Description: LM258 Datasheet; ComponentLink2URL: http://www.national.com/ds/LM/LM258.pdf; ComponentLink3Description: LM258 Web Page; ComponentLink3URL: http://www.national.com/pf/LM/LM258.html; ComponentLink4Description: H08C Package Page; ComponentLink4URL: http://www.national.com/packaging/folders/h08c.html
footprint H08C (Can; 8 Leads; Pin Circle Dia. 5.08 mm; Lead Dia. 0.48 mm (max))
pins on every part: 4 GND (power), 8 V+ (power)
part A pins: 1 OUTA (out), 2 INA- (in), 3 INA+ (in)
part B pins: 5 INB+ (in), 6 INB- (in), 7 OUTB (out)

## LM301AH
designator U?
Operational Amplifier, 8-pin TO-99; PartNumber: LM301AH; Manufacturer: National Semiconductor; PackageTopMarking: NSZXYTTE# LM301AH; PowerWise: N; CompType: Amplifiers; High-Reliability: Y; DatasheetVersion: Aug-2000; PackageVersion: revF, Jun-1995; PackageReference: H08C; PackageDescription: Metal Can, TO-99, 8 Lead, .200 Dia., P.C.; RoHS: N; PinCount: 8; Code_JEDEC: TO-99; ComponentLink1Description: Manufacturer URL; ComponentLink1URL: http://www.national.com/; ComponentLink2Description: LM301A Datasheet; ComponentLink2URL: http://www.national.com/ds/LM/LM301A.pdf; ComponentLink3Description: LM301A Web Page; ComponentLink3URL: http://www.national.com/pf/LM/LM301A.html; ComponentLink4Description: H08C Package Page; ComponentLink4URL: http://www.national.com/packaging/folders/h08c.html
footprint H08C (Can; 8 Leads; Pin Circle Dia. 5.08 mm; Lead Dia. 0.48 mm (max))
pins: 1 BAL/COMP, 2 IN- (in), 3 IN+ (in), 4 V- (power), 5 BAL, 6 OUT (out), 7 V+ (power), 8 COMP

## LM301AN
designator U?
Operational Amplifier, 8-pin MDIP; PartNumber: LM301AN; Manufacturer: National Semiconductor; PackageTopMarking: NSUZXYTTE#*LM*301AN; PowerWise: N; CompType: Amplifiers; High-Reliability: Y; DatasheetVersion: Aug-2000; PackageVersion: revG, May-2006; PackageReference: N08E; PackageDescription: MDIP, .365 x .250 x .130in, 8 Lead, .100in Pitch; RoHS: N; PinCount: 8; Code_JEDEC: MS-001-BA; ComponentLink1Description: Manufacturer URL; ComponentLink1URL: http://www.national.com/; ComponentLink2Description: LM301A Datasheet; ComponentLink2URL: http://www.national.com/ds/LM/LM301A.pdf; ComponentLink3Description: LM301A Web Page; ComponentLink3URL: http://www.national.com/pf/LM/LM301A.html; ComponentLink4Description: N08E Package Page; ComponentLink4URL: http://www.national.com/packaging/folders/n08e.html
footprint N08E (DIP, 8-Leads, Row Spacing 7.62mm, Pitch 2.54mm, Body 9.91x6.35mm)
pins: 1 BAL/COMP, 2 IN- (in), 3 IN+ (in), 4 V- (power), 5 BAL, 6 OUT (out), 7 V+ (power), 8 COMP

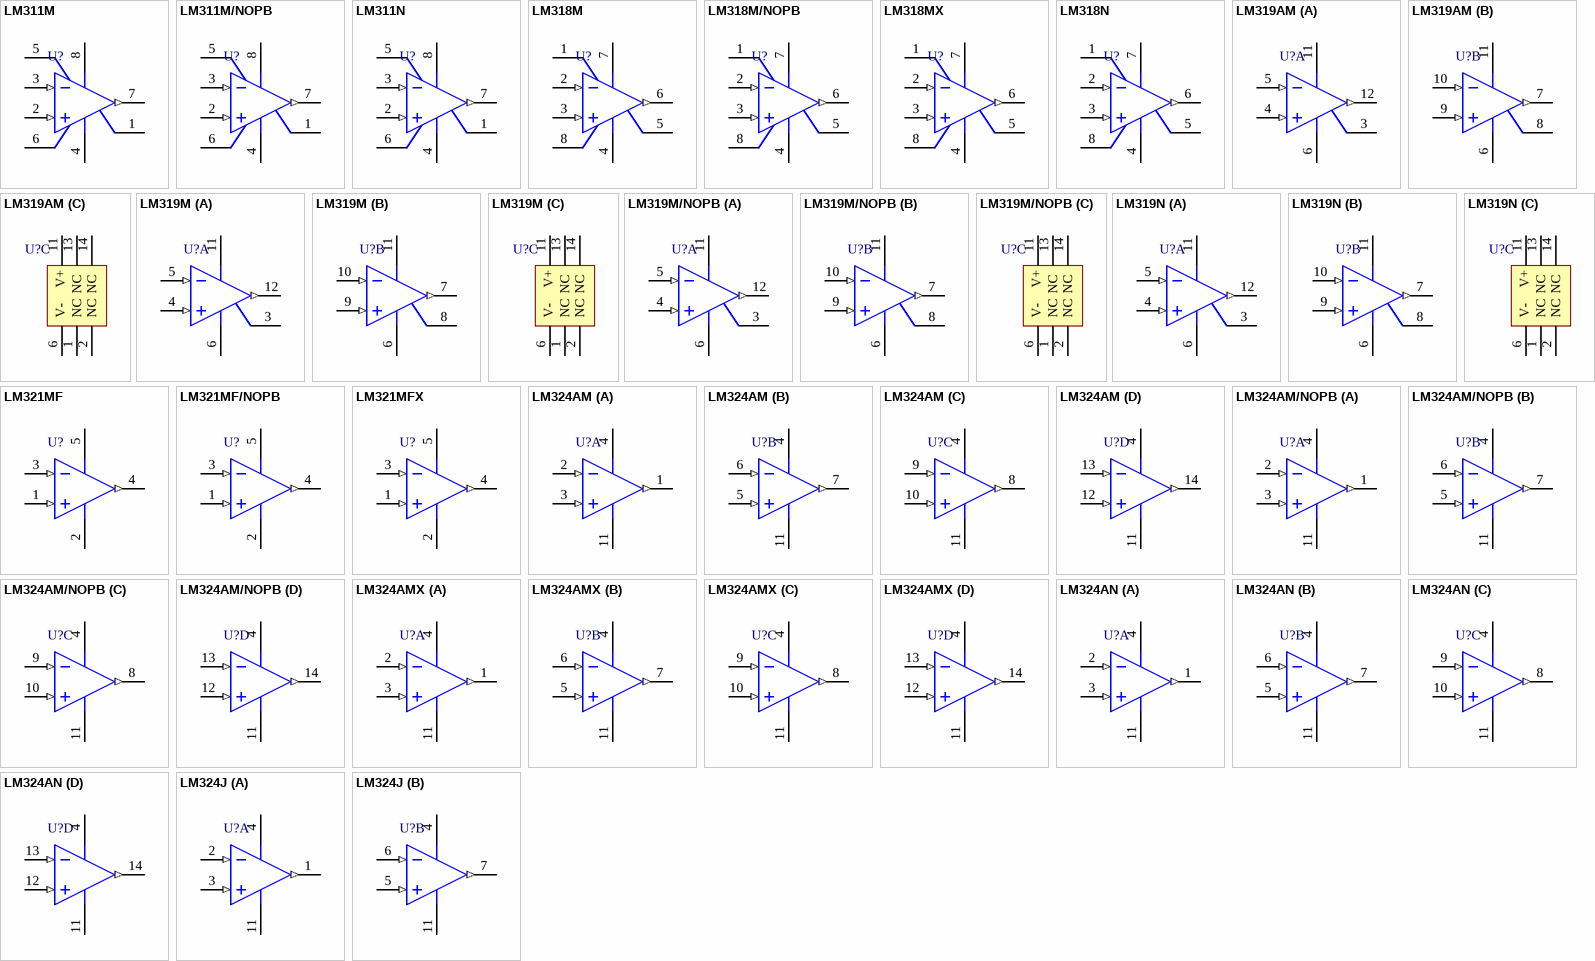
[diagram p10: symbols LM311M to LM324J]

## LM311M
designator U?
Voltage Comparator, 8-pin Narrow SOIC; PartNumber: LM311M; Manufacturer: National Semiconductor; PackageTopMarking: NSZXTT*LM*311M; PowerWise: N; CompType: Amplifiers; High-Reliability: Y; DatasheetVersion: Jan-2001; PackageVersion: revM, May-2009; PackageReference: M08A; PackageDescription: SOIC Narrow, 4.9 x 3.9 x 1.45mm, 8 Lead, 1.27mm Pitch; RoHS: N; PinCount: 8; Code_JEDEC: MS-012-AA; Code_IPC: SOIC127P600-8; ComponentLink1Description: Manufacturer URL; ComponentLink1URL: http://www.national.com/; ComponentLink2Description: LM311 Datasheet; ComponentLink2URL: http://www.national.com/ds/LM/LM311.pdf; ComponentLink3Description: LM311 Web Page; ComponentLink3URL: http://www.national.com/pf/LM/LM311.html; ComponentLink4Description: M08A Package Page; ComponentLink4URL: http://www.national.com/packaging/folders/m08a.html
footprint M08A_N (SOIC, 8-Leads, Body 4.9x3.9mm, Pitch 1.27mm, IPC Medium Density)
footprint M08A_L (SOIC, 8-Leads, Body 4.9x3.9mm, Pitch 1.27mm, IPC High Density)
footprint M08A_M (SOIC, 8-Leads, Body 4.9x3.9mm, Pitch 1.27mm, IPC Low Density)
pins: 1 GND (power), 2 IN+ (in), 3 IN- (in), 4 V- (power), 5 BAL, 6 BAL/STB, 7 OUT (out), 8 V+ (power)

## LM311M/NOPB
designator U?
Voltage Comparator, 8-pin Narrow SOIC, Pb-Free; PartNumber: LM311M/NOPB; Manufacturer: National Semiconductor; PackageTopMarking: NSZXTT*LM*311M; PowerWise: N; CompType: Amplifiers; High-Reliability: Y; DatasheetVersion: Jan-2001; PackageVersion: revM, May-2009; PackageReference: M08A; PackageDescription: SOIC Narrow, 4.9 x 3.9 x 1.45mm, 8 Lead, 1.27mm Pitch; RoHS: Y; PinCount: 8; Code_JEDEC: MS-012-AA; Code_IPC: SOIC127P600-8; ComponentLink1Description: Manufacturer URL; ComponentLink1URL: http://www.national.com/; ComponentLink2Description: LM311 Datasheet; ComponentLink2URL: http://www.national.com/ds/LM/LM311.pdf; ComponentLink3Description: LM311 Web Page; ComponentLink3URL: http://www.national.com/pf/LM/LM311.html; ComponentLink4Description: M08A Package Page; ComponentLink4URL: http://www.national.com/packaging/folders/m08a.html
footprint M08A_N (SOIC, 8-Leads, Body 4.9x3.9mm, Pitch 1.27mm, IPC Medium Density)
footprint M08A_L (SOIC, 8-Leads, Body 4.9x3.9mm, Pitch 1.27mm, IPC High Density)
footprint M08A_M (SOIC, 8-Leads, Body 4.9x3.9mm, Pitch 1.27mm, IPC Low Density)
pins: 1 GND (power), 2 IN+ (in), 3 IN- (in), 4 V- (power), 5 BAL, 6 BAL/STB, 7 OUT (out), 8 V+ (power)

## LM311N
designator U?
Voltage Comparator, 8-pin MDIP; PartNumber: LM311N; Manufacturer: National Semiconductor; PackageTopMarking: NSUZXYTTE#*LM*311N; PowerWise: N; CompType: Amplifiers; High-Reliability: Y; DatasheetVersion: Jan-2001; PackageVersion: revG, May-2006; PackageReference: N08E; PackageDescription: MDIP, .365 x .250 x .130in, 8 Lead, .100in Pitch; RoHS: N; PinCount: 8; Code_JEDEC: MS-001-BA; ComponentLink1Description: Manufacturer URL; ComponentLink1URL: http://www.national.com/; ComponentLink2Description: LM311 Datasheet; ComponentLink2URL: http://www.national.com/ds/LM/LM311.pdf; ComponentLink3Description: LM311 Web Page; ComponentLink3URL: http://www.national.com/pf/LM/LM311.html; ComponentLink4Description: N08E Package Page; ComponentLink4URL: http://www.national.com/packaging/folders/n08e.html
footprint N08E (DIP, 8-Leads, Row Spacing 7.62mm, Pitch 2.54mm, Body 9.91x6.35mm)
pins: 1 GND (power), 2 IN+ (in), 3 IN- (in), 4 V- (power), 5 BAL, 6 BAL/STB, 7 OUT (out), 8 V+ (power)

## LM318M
designator U?
Operational Amplifier, 8-pin Narrow SOIC; PartNumber: LM318M; Manufacturer: National Semiconductor; PackageTopMarking: NSZXTT*LM*318M; PowerWise: N; CompType: Amplifiers; High-Reliability: Y; DatasheetVersion: Aug-2000; PackageVersion: revM, May-2009; PackageReference: M08A; PackageDescription: SOIC Narrow, 4.9 x 3.9 x 1.45mm, 8 Lead, 1.27mm Pitch; RoHS: N; PinCount: 8; Code_JEDEC: MS-012-AA; Code_IPC: SOIC127P600-8; ComponentLink1Description: Manufacturer URL; ComponentLink1URL: http://www.national.com/; ComponentLink2Description: LM318 Datasheet; ComponentLink2URL: http://www.national.com/ds/LM/LM318.pdf; ComponentLink3Description: LM318 Web Page; ComponentLink3URL: http://www.national.com/pf/LM/LM318.html; ComponentLink4Description: M08A Package Page; ComponentLink4URL: http://www.national.com/packaging/folders/m08a.html
footprint M08A_N (SOIC, 8-Leads, Body 4.9x3.9mm, Pitch 1.27mm, IPC Medium Density)
footprint M08A_L (SOIC, 8-Leads, Body 4.9x3.9mm, Pitch 1.27mm, IPC High Density)
footprint M08A_M (SOIC, 8-Leads, Body 4.9x3.9mm, Pitch 1.27mm, IPC Low Density)
pins: 1 BAL/COMP1, 2 IN- (in), 3 IN+ (in), 4 V- (power), 5 BAL/COMP3, 6 OUT (out), 7 V+ (power), 8 COMP2

## LM318M/NOPB
designator U?
Operational Amplifier, 8-pin Narrow SOIC, Pb-Free; PartNumber: LM318M/NOPB; Manufacturer: National Semiconductor; PackageTopMarking: NSZXTT*LM*318M; PowerWise: N; CompType: Amplifiers; High-Reliability: Y; DatasheetVersion: Aug-2000; PackageVersion: revM, May-2009; PackageReference: M08A; PackageDescription: SOIC Narrow, 4.9 x 3.9 x 1.45mm, 8 Lead, 1.27mm Pitch; RoHS: Y; PinCount: 8; Code_JEDEC: MS-012-AA; Code_IPC: SOIC127P600-8; ComponentLink1Description: Manufacturer URL; ComponentLink1URL: http://www.national.com/; ComponentLink2Description: LM318 Datasheet; ComponentLink2URL: http://www.national.com/ds/LM/LM318.pdf; ComponentLink3Description: LM318 Web Page; ComponentLink3URL: http://www.national.com/pf/LM/LM318.html; ComponentLink4Description: M08A Package Page; ComponentLink4URL: http://www.national.com/packaging/folders/m08a.html
footprint M08A_N (SOIC, 8-Leads, Body 4.9x3.9mm, Pitch 1.27mm, IPC Medium Density)
footprint M08A_L (SOIC, 8-Leads, Body 4.9x3.9mm, Pitch 1.27mm, IPC High Density)
footprint M08A_M (SOIC, 8-Leads, Body 4.9x3.9mm, Pitch 1.27mm, IPC Low Density)
pins: 1 BAL/COMP1, 2 IN- (in), 3 IN+ (in), 4 V- (power), 5 BAL/COMP3, 6 OUT (out), 7 V+ (power), 8 COMP2